# Altium schematic symbol library Diode.SchLib: 578 symbols (part 2 of 4)
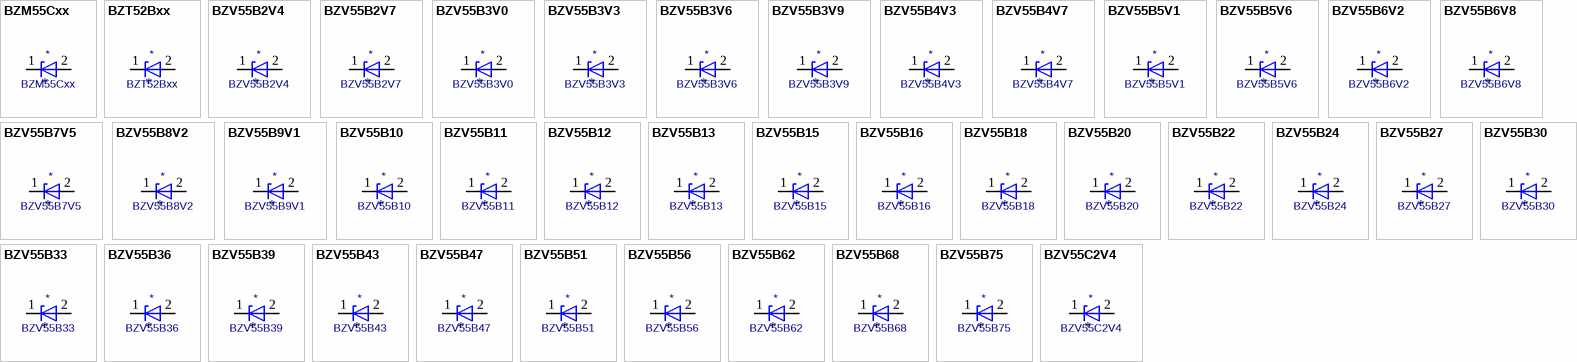
[diagram p16: symbols BZM55Cxx to BZV55C2V4]

## BZV55B9V1
designator *  value BZV55B9V1
ki_keywords: zener diode; ki_description: 9.1V, 500mW, 2%, Zener diode, MiniMELF; ki_fp_filters: D*MiniMELF*; Footprint: Diode_SMD:D_MiniMELF; Supplier: https://assets.nexperia.com/documents/data-sheet/BZV55_SER.pdf
footprint D_MiniMELF
pins: 1 K, 2 A

## BZV55B10
designator *  value BZV55B10
ki_keywords: zener diode; ki_description: 10V, 500mW, 2%, Zener diode, MiniMELF; ki_fp_filters: D*MiniMELF*; Footprint: Diode_SMD:D_MiniMELF; Supplier: https://assets.nexperia.com/documents/data-sheet/BZV55_SER.pdf
footprint D_MiniMELF
pins: 1 K, 2 A

## BZV55B11
designator *  value BZV55B11
ki_keywords: zener diode; ki_description: 11V, 500mW, 2%, Zener diode, MiniMELF; ki_fp_filters: D*MiniMELF*; Footprint: Diode_SMD:D_MiniMELF; Supplier: https://assets.nexperia.com/documents/data-sheet/BZV55_SER.pdf
footprint D_MiniMELF
pins: 1 K, 2 A

## BZV55B12
designator *  value BZV55B12
ki_keywords: zener diode; ki_description: 12V, 500mW, 2%, Zener diode, MiniMELF; ki_fp_filters: D*MiniMELF*; Footprint: Diode_SMD:D_MiniMELF; Supplier: https://assets.nexperia.com/documents/data-sheet/BZV55_SER.pdf
footprint D_MiniMELF
pins: 1 K, 2 A

## BZV55B13
designator *  value BZV55B13
ki_keywords: zener diode; ki_description: 13V, 500mW, 2%, Zener diode, MiniMELF; ki_fp_filters: D*MiniMELF*; Footprint: Diode_SMD:D_MiniMELF; Supplier: https://assets.nexperia.com/documents/data-sheet/BZV55_SER.pdf
footprint D_MiniMELF
pins: 1 K, 2 A

## BZV55B15
designator *  value BZV55B15
ki_keywords: zener diode; ki_description: 15V, 500mW, 2%, Zener diode, MiniMELF; ki_fp_filters: D*MiniMELF*; Footprint: Diode_SMD:D_MiniMELF; Supplier: https://assets.nexperia.com/documents/data-sheet/BZV55_SER.pdf
footprint D_MiniMELF
pins: 1 K, 2 A

## BZV55B16
designator *  value BZV55B16
ki_keywords: zener diode; ki_description: 16V, 500mW, 2%, Zener diode, MiniMELF; ki_fp_filters: D*MiniMELF*; Footprint: Diode_SMD:D_MiniMELF; Supplier: https://assets.nexperia.com/documents/data-sheet/BZV55_SER.pdf
footprint D_MiniMELF
pins: 1 K, 2 A

## BZV55B18
designator *  value BZV55B18
ki_keywords: zener diode; ki_description: 18V, 500mW, 2%, Zener diode, MiniMELF; ki_fp_filters: D*MiniMELF*; Footprint: Diode_SMD:D_MiniMELF; Supplier: https://assets.nexperia.com/documents/data-sheet/BZV55_SER.pdf
footprint D_MiniMELF
pins: 1 K, 2 A

## BZV55B20
designator *  value BZV55B20
ki_keywords: zener diode; ki_description: 20V, 500mW, 2%, Zener diode, MiniMELF; ki_fp_filters: D*MiniMELF*; Footprint: Diode_SMD:D_MiniMELF; Supplier: https://assets.nexperia.com/documents/data-sheet/BZV55_SER.pdf
footprint D_MiniMELF
pins: 1 K, 2 A

## BZV55B22
designator *  value BZV55B22
ki_keywords: zener diode; ki_description: 22V, 500mW, 2%, Zener diode, MiniMELF; ki_fp_filters: D*MiniMELF*; Footprint: Diode_SMD:D_MiniMELF; Supplier: https://assets.nexperia.com/documents/data-sheet/BZV55_SER.pdf
footprint D_MiniMELF
pins: 1 K, 2 A

## BZV55B24
designator *  value BZV55B24
ki_keywords: zener diode; ki_description: 24V, 500mW, 2%, Zener diode, MiniMELF; ki_fp_filters: D*MiniMELF*; Footprint: Diode_SMD:D_MiniMELF; Supplier: https://assets.nexperia.com/documents/data-sheet/BZV55_SER.pdf
footprint D_MiniMELF
pins: 1 K, 2 A

## BZV55B27
designator *  value BZV55B27
ki_keywords: zener diode; ki_description: 2.4V, 500mW, 2%, Zener diode, MiniMELF; ki_fp_filters: D*MiniMELF*; Footprint: Diode_SMD:D_MiniMELF; Supplier: https://assets.nexperia.com/documents/data-sheet/BZV55_SER.pdf
footprint D_MiniMELF
pins: 1 K, 2 A

## BZV55B30
designator *  value BZV55B30
ki_keywords: zener diode; ki_description: 30V, 500mW, 2%, Zener diode, MiniMELF; ki_fp_filters: D*MiniMELF*; Footprint: Diode_SMD:D_MiniMELF; Supplier: https://assets.nexperia.com/documents/data-sheet/BZV55_SER.pdf
footprint D_MiniMELF
pins: 1 K, 2 A

## BZV55B33
designator *  value BZV55B33
ki_keywords: zener diode; ki_description: 33V, 500mW, 2%, Zener diode, MiniMELF; ki_fp_filters: D*MiniMELF*; Footprint: Diode_SMD:D_MiniMELF; Supplier: https://assets.nexperia.com/documents/data-sheet/BZV55_SER.pdf
footprint D_MiniMELF
pins: 1 K, 2 A

## BZV55B36
designator *  value BZV55B36
ki_keywords: zener diode; ki_description: 36V, 500mW, 2%, Zener diode, MiniMELF; ki_fp_filters: D*MiniMELF*; Footprint: Diode_SMD:D_MiniMELF; Supplier: https://assets.nexperia.com/documents/data-sheet/BZV55_SER.pdf
footprint D_MiniMELF
pins: 1 K, 2 A

## BZV55B39
designator *  value BZV55B39
ki_keywords: zener diode; ki_description: 39V, 500mW, 2%, Zener diode, MiniMELF; ki_fp_filters: D*MiniMELF*; Footprint: Diode_SMD:D_MiniMELF; Supplier: https://assets.nexperia.com/documents/data-sheet/BZV55_SER.pdf
footprint D_MiniMELF
pins: 1 K, 2 A

## BZV55B43
designator *  value BZV55B43
ki_keywords: zener diode; ki_description: 43V, 500mW, 2%, Zener diode, MiniMELF; ki_fp_filters: D*MiniMELF*; Footprint: Diode_SMD:D_MiniMELF; Supplier: https://assets.nexperia.com/documents/data-sheet/BZV55_SER.pdf
footprint D_MiniMELF
pins: 1 K, 2 A

## BZV55B47
designator *  value BZV55B47
ki_keywords: zener diode; ki_description: 47V, 500mW, 2%, Zener diode, MiniMELF; ki_fp_filters: D*MiniMELF*; Footprint: Diode_SMD:D_MiniMELF; Supplier: https://assets.nexperia.com/documents/data-sheet/BZV55_SER.pdf
footprint D_MiniMELF
pins: 1 K, 2 A

## BZV55B51
designator *  value BZV55B51
ki_keywords: zener diode; ki_description: 51V, 500mW, 2%, Zener diode, MiniMELF; ki_fp_filters: D*MiniMELF*; Footprint: Diode_SMD:D_MiniMELF; Supplier: https://assets.nexperia.com/documents/data-sheet/BZV55_SER.pdf
footprint D_MiniMELF
pins: 1 K, 2 A

## BZV55B56
designator *  value BZV55B56
ki_keywords: zener diode; ki_description: 56V, 500mW, 2%, Zener diode, MiniMELF; ki_fp_filters: D*MiniMELF*; Footprint: Diode_SMD:D_MiniMELF; Supplier: https://assets.nexperia.com/documents/data-sheet/BZV55_SER.pdf
footprint D_MiniMELF
pins: 1 K, 2 A

## BZV55B62
designator *  value BZV55B62
ki_keywords: zener diode; ki_description: 62V, 500mW, 2%, Zener diode, MiniMELF; ki_fp_filters: D*MiniMELF*; Footprint: Diode_SMD:D_MiniMELF; Supplier: https://assets.nexperia.com/documents/data-sheet/BZV55_SER.pdf
footprint D_MiniMELF
pins: 1 K, 2 A

## BZV55B68
designator *  value BZV55B68
ki_keywords: zener diode; ki_description: 68V, 500mW, 2%, Zener diode, MiniMELF; ki_fp_filters: D*MiniMELF*; Footprint: Diode_SMD:D_MiniMELF; Supplier: https://assets.nexperia.com/documents/data-sheet/BZV55_SER.pdf
footprint D_MiniMELF
pins: 1 K, 2 A

## BZV55B75
designator *  value BZV55B75
ki_keywords: zener diode; ki_description: 75V, 500mW, 2%, Zener diode, MiniMELF; ki_fp_filters: D*MiniMELF*; Footprint: Diode_SMD:D_MiniMELF; Supplier: https://assets.nexperia.com/documents/data-sheet/BZV55_SER.pdf
footprint D_MiniMELF
pins: 1 K, 2 A

## BZV55C2V4
designator *  value BZV55C2V4
ki_keywords: zener diode; ki_description: 2.4V, 500mW, 5%, Zener diode, MiniMELF; ki_fp_filters: D*MiniMELF*; Footprint: Diode_SMD:D_MiniMELF; Supplier: https://assets.nexperia.com/documents/data-sheet/BZV55_SER.pdf
footprint D_MiniMELF
pins: 1 K, 2 A

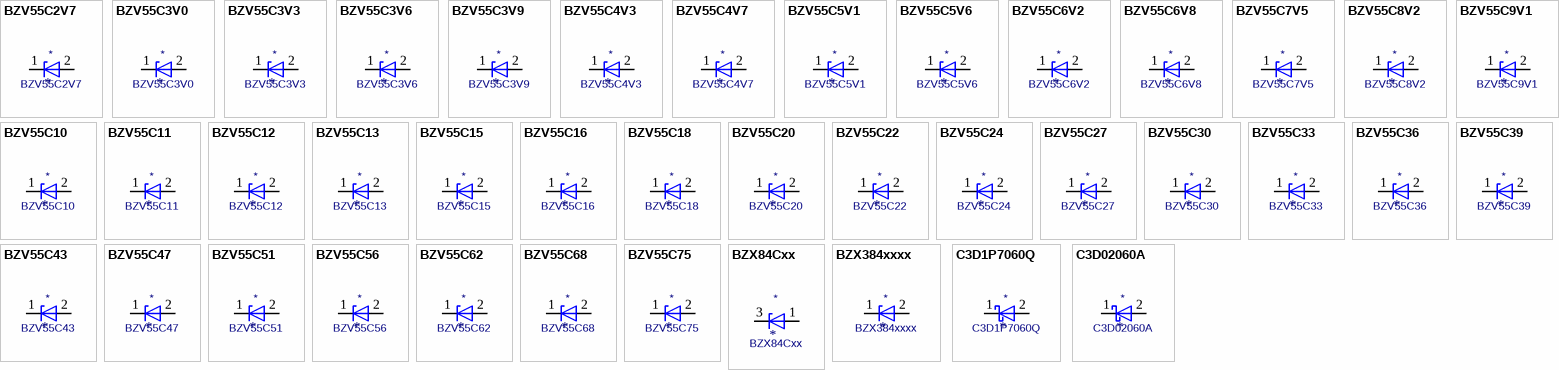
[diagram p5: symbols BZV55C2V7 to C3D02060A]

## BZV55C2V7
designator *  value BZV55C2V7
ki_keywords: zener diode; ki_description: 2.7V, 500mW, 5%, Zener diode, MiniMELF; ki_fp_filters: D*MiniMELF*; Footprint: Diode_SMD:D_MiniMELF; Supplier: https://assets.nexperia.com/documents/data-sheet/BZV55_SER.pdf
footprint D_MiniMELF
pins: 1 K, 2 A

## BZV55C3V0
designator *  value BZV55C3V0
ki_keywords: zener diode; ki_description: 3.0V, 500mW, 5%, Zener diode, MiniMELF; ki_fp_filters: D*MiniMELF*; Footprint: Diode_SMD:D_MiniMELF; Supplier: https://assets.nexperia.com/documents/data-sheet/BZV55_SER.pdf
footprint D_MiniMELF
pins: 1 K, 2 A

## BZV55C3V3
designator *  value BZV55C3V3
ki_keywords: zener diode; ki_description: 3.3V, 500mW, 5%, Zener diode, MiniMELF; ki_fp_filters: D*MiniMELF*; Footprint: Diode_SMD:D_MiniMELF; Supplier: https://assets.nexperia.com/documents/data-sheet/BZV55_SER.pdf
footprint D_MiniMELF
pins: 1 K, 2 A

## BZV55C3V6
designator *  value BZV55C3V6
ki_keywords: zener diode; ki_description: 3.6V, 500mW, 5%, Zener diode, MiniMELF; ki_fp_filters: D*MiniMELF*; Footprint: Diode_SMD:D_MiniMELF; Supplier: https://assets.nexperia.com/documents/data-sheet/BZV55_SER.pdf
footprint D_MiniMELF
pins: 1 K, 2 A

## BZV55C3V9
designator *  value BZV55C3V9
ki_keywords: zener diode; ki_description: 3.9V, 500mW, 5%, Zener diode, MiniMELF; ki_fp_filters: D*MiniMELF*; Footprint: Diode_SMD:D_MiniMELF; Supplier: https://assets.nexperia.com/documents/data-sheet/BZV55_SER.pdf
footprint D_MiniMELF
pins: 1 K, 2 A

## BZV55C4V3
designator *  value BZV55C4V3
ki_keywords: zener diode; ki_description: 4.3V, 500mW, 5%, Zener diode, MiniMELF; ki_fp_filters: D*MiniMELF*; Footprint: Diode_SMD:D_MiniMELF; Supplier: https://assets.nexperia.com/documents/data-sheet/BZV55_SER.pdf
footprint D_MiniMELF
pins: 1 K, 2 A

## BZV55C4V7
designator *  value BZV55C4V7
ki_keywords: zener diode; ki_description: 4.7V, 500mW, 5%, Zener diode, MiniMELF; ki_fp_filters: D*MiniMELF*; Footprint: Diode_SMD:D_MiniMELF; Supplier: https://assets.nexperia.com/documents/data-sheet/BZV55_SER.pdf
footprint D_MiniMELF
pins: 1 K, 2 A

## BZV55C5V1
designator *  value BZV55C5V1
ki_keywords: zener diode; ki_description: 5.1V, 500mW, 5%, Zener diode, MiniMELF; ki_fp_filters: D*MiniMELF*; Footprint: Diode_SMD:D_MiniMELF; Supplier: https://assets.nexperia.com/documents/data-sheet/BZV55_SER.pdf
footprint D_MiniMELF
pins: 1 K, 2 A

## BZV55C5V6
designator *  value BZV55C5V6
ki_keywords: zener diode; ki_description: 5.6V, 500mW, 5%, Zener diode, MiniMELF; ki_fp_filters: D*MiniMELF*; Footprint: Diode_SMD:D_MiniMELF; Supplier: https://assets.nexperia.com/documents/data-sheet/BZV55_SER.pdf
footprint D_MiniMELF
pins: 1 K, 2 A

## BZV55C6V2
designator *  value BZV55C6V2
ki_keywords: zener diode; ki_description: 6.2V, 500mW, 5%, Zener diode, MiniMELF; ki_fp_filters: D*MiniMELF*; Footprint: Diode_SMD:D_MiniMELF; Supplier: https://assets.nexperia.com/documents/data-sheet/BZV55_SER.pdf
footprint D_MiniMELF
pins: 1 K, 2 A

## BZV55C6V8
designator *  value BZV55C6V8
ki_keywords: zener diode; ki_description: 6.8V, 500mW, 5%, Zener diode, MiniMELF; ki_fp_filters: D*MiniMELF*; Footprint: Diode_SMD:D_MiniMELF; Supplier: https://assets.nexperia.com/documents/data-sheet/BZV55_SER.pdf
footprint D_MiniMELF
pins: 1 K, 2 A

## BZV55C7V5
designator *  value BZV55C7V5
ki_keywords: zener diode; ki_description: 7.5V, 500mW, 5%, Zener diode, MiniMELF; ki_fp_filters: D*MiniMELF*; Footprint: Diode_SMD:D_MiniMELF; Supplier: https://assets.nexperia.com/documents/data-sheet/BZV55_SER.pdf
footprint D_MiniMELF
pins: 1 K, 2 A

## BZV55C8V2
designator *  value BZV55C8V2
ki_keywords: zener diode; ki_description: 8.2V, 500mW, 5%, Zener diode, MiniMELF; ki_fp_filters: D*MiniMELF*; Footprint: Diode_SMD:D_MiniMELF; Supplier: https://assets.nexperia.com/documents/data-sheet/BZV55_SER.pdf
footprint D_MiniMELF
pins: 1 K, 2 A

## BZV55C9V1
designator *  value BZV55C9V1
ki_keywords: zener diode; ki_description: 9.1V, 500mW, 5%, Zener diode, MiniMELF; ki_fp_filters: D*MiniMELF*; Footprint: Diode_SMD:D_MiniMELF; Supplier: https://assets.nexperia.com/documents/data-sheet/BZV55_SER.pdf
footprint D_MiniMELF
pins: 1 K, 2 A

## BZV55C10
designator *  value BZV55C10
ki_keywords: zener diode; ki_description: 10V, 500mW, 5%, Zener diode, MiniMELF; ki_fp_filters: D*MiniMELF*; Footprint: Diode_SMD:D_MiniMELF; Supplier: https://assets.nexperia.com/documents/data-sheet/BZV55_SER.pdf
footprint D_MiniMELF
pins: 1 K, 2 A

## BZV55C11
designator *  value BZV55C11
ki_keywords: zener diode; ki_description: 11V, 500mW, 5%, Zener diode, MiniMELF; ki_fp_filters: D*MiniMELF*; Footprint: Diode_SMD:D_MiniMELF; Supplier: https://assets.nexperia.com/documents/data-sheet/BZV55_SER.pdf
footprint D_MiniMELF
pins: 1 K, 2 A

## BZV55C12
designator *  value BZV55C12
ki_keywords: zener diode; ki_description: 12V, 500mW, 5%, Zener diode, MiniMELF; ki_fp_filters: D*MiniMELF*; Footprint: Diode_SMD:D_MiniMELF; Supplier: https://assets.nexperia.com/documents/data-sheet/BZV55_SER.pdf
footprint D_MiniMELF
pins: 1 K, 2 A

## BZV55C13
designator *  value BZV55C13
ki_keywords: zener diode; ki_description: 13V, 500mW, 5%, Zener diode, MiniMELF; ki_fp_filters: D*MiniMELF*; Footprint: Diode_SMD:D_MiniMELF; Supplier: https://assets.nexperia.com/documents/data-sheet/BZV55_SER.pdf
footprint D_MiniMELF
pins: 1 K, 2 A

## BZV55C15
designator *  value BZV55C15
ki_keywords: zener diode; ki_description: 15V, 500mW, 5%, Zener diode, MiniMELF; ki_fp_filters: D*MiniMELF*; Footprint: Diode_SMD:D_MiniMELF; Supplier: https://assets.nexperia.com/documents/data-sheet/BZV55_SER.pdf
footprint D_MiniMELF
pins: 1 K, 2 A

## BZV55C16
designator *  value BZV55C16
ki_keywords: zener diode; ki_description: 16V, 500mW, 5%, Zener diode, MiniMELF; ki_fp_filters: D*MiniMELF*; Footprint: Diode_SMD:D_MiniMELF; Supplier: https://assets.nexperia.com/documents/data-sheet/BZV55_SER.pdf
footprint D_MiniMELF
pins: 1 K, 2 A

## BZV55C18
designator *  value BZV55C18
ki_keywords: zener diode; ki_description: 18V, 500mW, 5%, Zener diode, MiniMELF; ki_fp_filters: D*MiniMELF*; Footprint: Diode_SMD:D_MiniMELF; Supplier: https://assets.nexperia.com/documents/data-sheet/BZV55_SER.pdf
footprint D_MiniMELF
pins: 1 K, 2 A

## BZV55C20
designator *  value BZV55C20
ki_keywords: zener diode; ki_description: 20V, 500mW, 5%, Zener diode, MiniMELF; ki_fp_filters: D*MiniMELF*; Footprint: Diode_SMD:D_MiniMELF; Supplier: https://assets.nexperia.com/documents/data-sheet/BZV55_SER.pdf
footprint D_MiniMELF
pins: 1 K, 2 A

## BZV55C22
designator *  value BZV55C22
ki_keywords: zener diode; ki_description: 22V, 500mW, 5%, Zener diode, MiniMELF; ki_fp_filters: D*MiniMELF*; Footprint: Diode_SMD:D_MiniMELF; Supplier: https://assets.nexperia.com/documents/data-sheet/BZV55_SER.pdf
footprint D_MiniMELF
pins: 1 K, 2 A

## BZV55C24
designator *  value BZV55C24
ki_keywords: zener diode; ki_description: 24V, 500mW, 5%, Zener diode, MiniMELF; ki_fp_filters: D*MiniMELF*; Footprint: Diode_SMD:D_MiniMELF; Supplier: https://assets.nexperia.com/documents/data-sheet/BZV55_SER.pdf
footprint D_MiniMELF
pins: 1 K, 2 A

## BZV55C27
designator *  value BZV55C27
ki_keywords: zener diode; ki_description: 27V, 500mW, 5%, Zener diode, MiniMELF; ki_fp_filters: D*MiniMELF*; Footprint: Diode_SMD:D_MiniMELF; Supplier: https://assets.nexperia.com/documents/data-sheet/BZV55_SER.pdf
footprint D_MiniMELF
pins: 1 K, 2 A

## BZV55C30
designator *  value BZV55C30
ki_keywords: zener diode; ki_description: 30V, 500mW, 5%, Zener diode, MiniMELF; ki_fp_filters: D*MiniMELF*; Footprint: Diode_SMD:D_MiniMELF; Supplier: https://assets.nexperia.com/documents/data-sheet/BZV55_SER.pdf
footprint D_MiniMELF
pins: 1 K, 2 A

## BZV55C33
designator *  value BZV55C33
ki_keywords: zener diode; ki_description: 33V, 500mW, 5%, Zener diode, MiniMELF; ki_fp_filters: D*MiniMELF*; Footprint: Diode_SMD:D_MiniMELF; Supplier: https://assets.nexperia.com/documents/data-sheet/BZV55_SER.pdf
footprint D_MiniMELF
pins: 1 K, 2 A

## BZV55C36
designator *  value BZV55C36
ki_keywords: zener diode; ki_description: 36V, 500mW, 5%, Zener diode, MiniMELF; ki_fp_filters: D*MiniMELF*; Footprint: Diode_SMD:D_MiniMELF; Supplier: https://assets.nexperia.com/documents/data-sheet/BZV55_SER.pdf
footprint D_MiniMELF
pins: 1 K, 2 A

## BZV55C39
designator *  value BZV55C39
ki_keywords: zener diode; ki_description: 39V, 500mW, 5%, Zener diode, MiniMELF; ki_fp_filters: D*MiniMELF*; Footprint: Diode_SMD:D_MiniMELF; Supplier: https://assets.nexperia.com/documents/data-sheet/BZV55_SER.pdf
footprint D_MiniMELF
pins: 1 K, 2 A

## BZV55C43
designator *  value BZV55C43
ki_keywords: zener diode; ki_description: 43V, 500mW, 5%, Zener diode, MiniMELF; ki_fp_filters: D*MiniMELF*; Footprint: Diode_SMD:D_MiniMELF; Supplier: https://assets.nexperia.com/documents/data-sheet/BZV55_SER.pdf
footprint D_MiniMELF
pins: 1 K, 2 A

## BZV55C47
designator *  value BZV55C47
ki_keywords: zener diode; ki_description: 47V, 500mW, 5%, Zener diode, MiniMELF; ki_fp_filters: D*MiniMELF*; Footprint: Diode_SMD:D_MiniMELF; Supplier: https://assets.nexperia.com/documents/data-sheet/BZV55_SER.pdf
footprint D_MiniMELF
pins: 1 K, 2 A

## BZV55C51
designator *  value BZV55C51
ki_keywords: zener diode; ki_description: 51V, 500mW, 5%, Zener diode, MiniMELF; ki_fp_filters: D*MiniMELF*; Footprint: Diode_SMD:D_MiniMELF; Supplier: https://assets.nexperia.com/documents/data-sheet/BZV55_SER.pdf
footprint D_MiniMELF
pins: 1 K, 2 A

## BZV55C56
designator *  value BZV55C56
ki_keywords: zener diode; ki_description: 56V, 500mW, 5%, Zener diode, MiniMELF; ki_fp_filters: D*MiniMELF*; Footprint: Diode_SMD:D_MiniMELF; Supplier: https://assets.nexperia.com/documents/data-sheet/BZV55_SER.pdf
footprint D_MiniMELF
pins: 1 K, 2 A

## BZV55C62
designator *  value BZV55C62
ki_keywords: zener diode; ki_description: 62V, 500mW, 5%, Zener diode, MiniMELF; ki_fp_filters: D*MiniMELF*; Footprint: Diode_SMD:D_MiniMELF; Supplier: https://assets.nexperia.com/documents/data-sheet/BZV55_SER.pdf
footprint D_MiniMELF
pins: 1 K, 2 A

## BZV55C68
designator *  value BZV55C68
ki_keywords: zener diode; ki_description: 68V, 500mW, 5%, Zener diode, MiniMELF; ki_fp_filters: D*MiniMELF*; Footprint: Diode_SMD:D_MiniMELF; Supplier: https://assets.nexperia.com/documents/data-sheet/BZV55_SER.pdf
footprint D_MiniMELF
pins: 1 K, 2 A

## BZV55C75
designator *  value BZV55C75
ki_keywords: zener diode; ki_description: 75V, 500mW, 5%, Zener diode, MiniMELF; ki_fp_filters: D*MiniMELF*; Footprint: Diode_SMD:D_MiniMELF; Supplier: https://assets.nexperia.com/documents/data-sheet/BZV55_SER.pdf
footprint D_MiniMELF
pins: 1 K, 2 A

## BZX84Cxx
designator *  value BZX84Cxx
ki_keywords: zener diode; ki_description: 300mW Zener Diode, SOT-23; ki_fp_filters: SOT?23*; Footprint: Package_TO_SOT_SMD:SOT-23; Supplier: https://diotec.com/tl_files/diotec/files/pdf/datasheets/bzx84c2v4.pdf
footprint SOT-23
pins: 1 A, 2 NC (in) hidden, 3 K

## BZX384xxxx
designator *  value BZX384xxxx
ki_keywords: zener diode; ki_description: 300mW Zener Diode, SOD-323; ki_fp_filters: D*SOD*323*; Footprint: Diode_SMD:D_SOD-323; Supplier: https://www.vishay.com/docs/85764/bzx384.pdf
footprint D_SOD-323
pins: 1 K, 2 A

## C3D1P7060Q
designator *  value C3D1P7060Q
ki_keywords: sic diode; ki_description: 600V, 1.7A, SiC Schottky Diode, QFN; ki_fp_filters: D*QFN*3.3x3.3mm*P0.65mm*; Footprint: Diode_SMD:D_QFN_3.3x3.3mm_P0.65mm; Supplier: https://www.wolfspeed.com/media/downloads/846/C3D1P7060Q.pdf
footprint D_QFN_3.3x3.3mm_P0.65mm
pins: 1 K, 2 A

## C3D02060A
designator *  value C3D02060A
ki_keywords: sic diode; ki_description: 600V, 2A, SiC Schottky Diode, TO-220; ki_fp_filters: TO?220*; Footprint: Package_TO_SOT_THT:TO-220-2_Vertical; Supplier: https://www.wolfspeed.com/media/downloads/55/C3D02060A.pdf
footprint TO-220-2_Vertical
pins: 1 K, 2 A

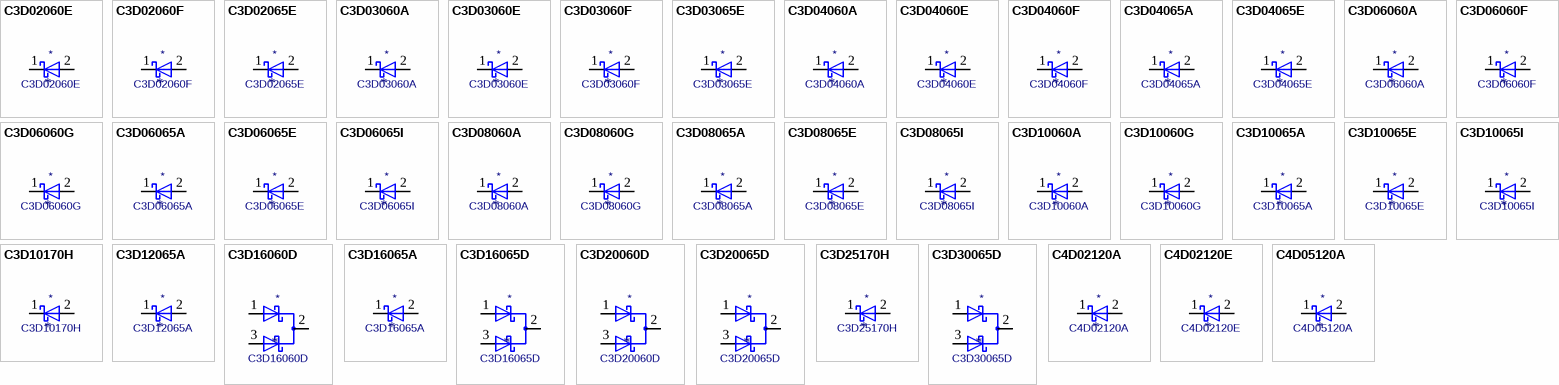
[diagram p6: symbols C3D02060E to C4D05120A]

## C3D02060E
designator *  value C3D02060E
ki_keywords: sic diode; ki_description: 600V, 2A, SiC Schottky Diode, TO-252; ki_fp_filters: TO?252*TabPin1*; Footprint: Package_TO_SOT_SMD:TO-252-2_TabPin1; Supplier: https://www.wolfspeed.com/media/downloads/116/C3D02060E.pdf
footprint TO-252-2_TabPin1
pins: 1 K, 2 A

## C3D02060F
designator *  value C3D02060F
ki_keywords: sic diode; ki_description: 600V, 2A, SiC Schottky Diode, TO-220F; ki_fp_filters: TO?220F*; Footprint: Package_TO_SOT_THT:TO-220F-2_Vertical; Supplier: https://www.wolfspeed.com/media/downloads/35/C3D02060F.pdf
footprint TO-220F-2_Vertical
pins: 1 K, 2 A

## C3D02065E
designator *  value C3D02065E
ki_keywords: sic diode; ki_description: 650V, 2A, SiC Schottky Diode, TO-252; ki_fp_filters: TO?252*TabPin1*; Footprint: Package_TO_SOT_SMD:TO-252-2_TabPin1; Supplier: https://www.wolfspeed.com/media/downloads/118/C3D02065E.pdf
footprint TO-252-2_TabPin1
pins: 1 K, 2 A

## C3D03060A
designator *  value C3D03060A
ki_keywords: sic diode; ki_description: 600V, 3A, SiC Schottky Diode, TO-220; ki_fp_filters: TO?220*; Footprint: Package_TO_SOT_THT:TO-220-2_Vertical; Supplier: https://www.wolfspeed.com/media/downloads/57/C3D03060A.pdf
footprint TO-220-2_Vertical
pins: 1 K, 2 A

## C3D03060E
designator *  value C3D03060E
ki_keywords: sic diode; ki_description: 600V, 3A, SiC Schottky Diode, TO-252; ki_fp_filters: TO?252*TabPin1*; Footprint: Package_TO_SOT_SMD:TO-252-2_TabPin1; Supplier: https://www.wolfspeed.com/media/downloads/119/C3D03060E.pdf
footprint TO-252-2_TabPin1
pins: 1 K, 2 A

## C3D03060F
designator *  value C3D03060F
ki_keywords: sic diode; ki_description: 600V, 3A, SiC Schottky Diode, TO-220F; ki_fp_filters: TO?220F*; Footprint: Package_TO_SOT_THT:TO-220F-2_Vertical; Supplier: https://www.wolfspeed.com/media/downloads/39/C3D03060F.pdf
footprint TO-220F-2_Vertical
pins: 1 K, 2 A

## C3D03065E
designator *  value C3D03065E
ki_keywords: sic diode; ki_description: 650V, 3A, SiC Schottky Diode, TO-252; ki_fp_filters: TO?252*TabPin1*; Footprint: Package_TO_SOT_SMD:TO-252-2_TabPin1; Supplier: https://www.wolfspeed.com/media/downloads/121/C3D03065E.pdf
footprint TO-252-2_TabPin1
pins: 1 K, 2 A

## C3D04060A
designator *  value C3D04060A
ki_keywords: sic diode; ki_description: 600V, 4A, SiC Schottky Diode, TO-220; ki_fp_filters: TO?220*; Footprint: Package_TO_SOT_THT:TO-220-2_Vertical; Supplier: https://www.wolfspeed.com/media/downloads/845/C3D04060A.pdf
footprint TO-220-2_Vertical
pins: 1 K, 2 A

## C3D04060E
designator *  value C3D04060E
ki_keywords: sic diode; ki_description: 600V, 4A, SiC Schottky Diode, TO-252; ki_fp_filters: TO?252*TabPin1*; Footprint: Package_TO_SOT_SMD:TO-252-2_TabPin1; Supplier: https://www.wolfspeed.com/media/downloads/122/C3D04060E.pdf
footprint TO-252-2_TabPin1
pins: 1 K, 2 A

## C3D04060F
designator *  value C3D04060F
ki_keywords: sic diode; ki_description: 600V, 4A, SiC Schottky Diode, TO-220F; ki_fp_filters: TO?220F*; Footprint: Package_TO_SOT_THT:TO-220F-2_Vertical; Supplier: https://www.wolfspeed.com/media/downloads/41/C3D04060F.pdf
footprint TO-220F-2_Vertical
pins: 1 K, 2 A

## C3D04065A
designator *  value C3D04065A
ki_keywords: sic diode; ki_description: 650V, 4A, SiC Schottky Diode, TO-220; ki_fp_filters: TO?220*; Footprint: Package_TO_SOT_THT:TO-220-2_Vertical; Supplier: https://www.wolfspeed.com/media/downloads/841/C3D04065A.pdf
footprint TO-220-2_Vertical
pins: 1 K, 2 A

## C3D04065E
designator *  value C3D04065E
ki_keywords: sic diode; ki_description: 650V, 4A, SiC Schottky Diode, TO-252; ki_fp_filters: TO?252*TabPin1*; Footprint: Package_TO_SOT_SMD:TO-252-2_TabPin1; Supplier: https://www.wolfspeed.com/media/downloads/124/C3D04065E.pdf
footprint TO-252-2_TabPin1
pins: 1 K, 2 A

## C3D06060A
designator *  value C3D06060A
ki_keywords: sic diode; ki_description: 600V, 6A, SiC Schottky Diode, TO-220; ki_fp_filters: TO?220*; Footprint: Package_TO_SOT_THT:TO-220-2_Vertical; Supplier: https://www.wolfspeed.com/media/downloads/844/C3D06060A.pdf
footprint TO-220-2_Vertical
pins: 1 K, 2 A

## C3D06060F
designator *  value C3D06060F
ki_keywords: sic diode; ki_description: 600V, 6A, SiC Schottky Diode, TO-220F; ki_fp_filters: TO?220F*; Footprint: Package_TO_SOT_THT:TO-220F-2_Vertical; Supplier: https://www.wolfspeed.com/media/downloads/43/C3D06060F.pdf
footprint TO-220F-2_Vertical
pins: 1 K, 2 A

## C3D06060G
designator *  value C3D06060G
ki_keywords: sic diode; ki_description: 600V, 6A, SiC Schottky Diode, TO-263; ki_fp_filters: TO?263*TabPin1*; Footprint: Package_TO_SOT_SMD:TO-263-2_TabPin1; Supplier: https://www.wolfspeed.com/media/downloads/137/C3D06060G.pdf
footprint TO-263-2_TabPin1
pins: 1 K, 2 A

## C3D06065A
designator *  value C3D06065A
ki_keywords: sic diode; ki_description: 650V, 6A, SiC Schottky Diode, TO-220; ki_fp_filters: TO?220*; Footprint: Package_TO_SOT_THT:TO-220-2_Vertical; Supplier: https://www.wolfspeed.com/media/downloads/65/C3D06065A.pdf
footprint TO-220-2_Vertical
pins: 1 K, 2 A

## C3D06065E
designator *  value C3D06065E
ki_keywords: sic diode; ki_description: 650V, 6A, SiC Schottky Diode, TO-252; ki_fp_filters: TO?252*TabPin1*; Footprint: Package_TO_SOT_SMD:TO-252-2_TabPin1; Supplier: https://www.wolfspeed.com/media/downloads/125/C3D06065E.pdf
footprint TO-252-2_TabPin1
pins: 1 K, 2 A

## C3D06065I
designator *  value C3D06065I
ki_keywords: sic diode; ki_description: 650V, 6A, SiC Schottky Diode, Isolated TO-220; ki_fp_filters: TO?220*; Footprint: Package_TO_SOT_THT:TO-220-2_Vertical; Supplier: https://www.wolfspeed.com/media/downloads/44/C3D06065I.pdf
footprint TO-220-2_Vertical
pins: 1 K, 2 A

## C3D08060A
designator *  value C3D08060A
ki_keywords: sic diode; ki_description: 600V, 8A, SiC Schottky Diode, TO-220; ki_fp_filters: TO?220*; Footprint: Package_TO_SOT_THT:TO-220-2_Vertical; Supplier: https://www.wolfspeed.com/media/downloads/843/C3D08060A.pdf
footprint TO-220-2_Vertical
pins: 1 K, 2 A

## C3D08060G
designator *  value C3D08060G
ki_keywords: sic diode; ki_description: 600V, 8A, SiC Schottky Diode, TO-263; ki_fp_filters: TO?263*TabPin1*; Footprint: Package_TO_SOT_SMD:TO-263-2_TabPin1; Supplier: https://www.wolfspeed.com/media/downloads/141/C3D08060G.pdf
footprint TO-263-2_TabPin1
pins: 1 K, 2 A

## C3D08065A
designator *  value C3D08065A
ki_keywords: sic diode; ki_description: 650V, 8A, SiC Schottky Diode, TO-220; ki_fp_filters: TO?220*; Footprint: Package_TO_SOT_THT:TO-220-2_Vertical; Supplier: https://www.wolfspeed.com/media/downloads/840/C3D08065A.pdf
footprint TO-220-2_Vertical
pins: 1 K, 2 A

## C3D08065E
designator *  value C3D08065E
ki_keywords: sic diode; ki_description: 650V, 8A, SiC Schottky Diode, TO-252; ki_fp_filters: TO?252*TabPin1*; Footprint: Package_TO_SOT_SMD:TO-252-2_TabPin1; Supplier: https://www.wolfspeed.com/media/downloads/839/C3D08065E.pdf
footprint TO-252-2_TabPin1
pins: 1 K, 2 A

## C3D08065I
designator *  value C3D08065I
ki_keywords: sic diode; ki_description: 650V, 8A, SiC Schottky Diode, Isolated TO-220; ki_fp_filters: TO?220*; Footprint: Package_TO_SOT_THT:TO-220-2_Vertical; Supplier: https://www.wolfspeed.com/media/downloads/47/C3D08065I.pdf
footprint TO-220-2_Vertical
pins: 1 K, 2 A

## C3D10060A
designator *  value C3D10060A
ki_keywords: sic diode; ki_description: 600V, 10A, SiC Schottky Diode, TO-220; ki_fp_filters: TO?220*; Footprint: Package_TO_SOT_THT:TO-220-2_Vertical; Supplier: https://www.wolfspeed.com/media/downloads/842/C3D10060A.pdf
footprint TO-220-2_Vertical
pins: 1 K, 2 A

## C3D10060G
designator *  value C3D10060G
ki_keywords: sic diode; ki_description: 600V, 10A, SiC Schottky Diode, TO-263; ki_fp_filters: TO?263*TabPin1*; Footprint: Package_TO_SOT_SMD:TO-263-2_TabPin1; Supplier: https://www.wolfspeed.com/media/downloads/143/C3D10060G.pdf
footprint TO-263-2_TabPin1
pins: 1 K, 2 A

## C3D10065A
designator *  value C3D10065A
ki_keywords: sic diode; ki_description: 650V, 10A, SiC Schottky Diode, TO-220; ki_fp_filters: TO?220*; Footprint: Package_TO_SOT_THT:TO-220-2_Vertical; Supplier: https://www.wolfspeed.com/media/downloads/73/C3D10065A.pdf
footprint TO-220-2_Vertical
pins: 1 K, 2 A

## C3D10065E
designator *  value C3D10065E
ki_keywords: sic diode; ki_description: 650V, 10A, SiC Schottky Diode, TO-252; ki_fp_filters: TO?252*TabPin1*; Footprint: Package_TO_SOT_SMD:TO-252-2_TabPin1; Supplier: https://www.wolfspeed.com/media/downloads/127/C3D10065E.pdf
footprint TO-252-2_TabPin1
pins: 1 K, 2 A

## C3D10065I
designator *  value C3D10065I
ki_keywords: sic diode; ki_description: 650V, 10A, SiC Schottky Diode, Isolated TO-220; ki_fp_filters: TO?220*; Footprint: Package_TO_SOT_THT:TO-220-2_Vertical; Supplier: https://www.wolfspeed.com/media/downloads/49/C3D10065I.pdf
footprint TO-220-2_Vertical
pins: 1 K, 2 A

## C3D10170H
designator *  value C3D10170H
ki_keywords: sic diode; ki_description: 1700V, 10A, SiC Schottky Diode, TO-247; ki_fp_filters: TO?247*; Footprint: Package_TO_SOT_THT:TO-247-2_Vertical; Supplier: https://www.wolfspeed.com/media/downloads/96/C3D10170H.pdf
footprint TO-247-2_Vertical
pins: 1 K, 2 A

## C3D12065A
designator *  value C3D12065A
ki_keywords: sic diode; ki_description: 650V, 12A, SiC Schottky Diode, TO-220; ki_fp_filters: TO?220*; Footprint: Package_TO_SOT_THT:TO-220-2_Vertical; Supplier: https://www.wolfspeed.com/media/downloads/963/C3D12065A.pdf
footprint TO-220-2_Vertical
pins: 1 K, 2 A

## C3D16060D
designator *  value C3D16060D
ki_keywords: sic diode; ki_description: 600V, 16A, SiC Schottky Diode, TO-247-3; ki_fp_filters: TO?247*; Footprint: Package_TO_SOT_THT:TO-247-3_Vertical; Supplier: https://www.wolfspeed.com/media/downloads/98/C3D16060D.pdf
footprint TO-247-3_Vertical
pins: 1 A1, 2 K, 3 A2

## C3D16065A
designator *  value C3D16065A
ki_keywords: sic diode; ki_description: 650V, 16A, SiC Schottky Diode, TO-220; ki_fp_filters: TO?220*; Footprint: Package_TO_SOT_THT:TO-220-2_Vertical; Supplier: https://www.wolfspeed.com/media/downloads/964/C3D16065A.pdf
footprint TO-220-2_Vertical
pins: 1 K, 2 A

## C3D16065D
designator *  value C3D16065D
ki_keywords: sic diode; ki_description: 650V, 16A, SiC Schottky Diode, TO-247-3; ki_fp_filters: TO?247*; Footprint: Package_TO_SOT_THT:TO-247-3_Vertical; Supplier: https://www.wolfspeed.com/media/downloads/99/C3D16065D.pdf
footprint TO-247-3_Vertical
pins: 1 A1, 2 K, 3 A2

## C3D20060D
designator *  value C3D20060D
ki_keywords: sic diode; ki_description: 600V, 20A, SiC Schottky Diode, TO-247-3; ki_fp_filters: TO?247*; Footprint: Package_TO_SOT_THT:TO-247-3_Vertical; Supplier: https://www.wolfspeed.com/media/downloads/100/C3D20060D.pdf
footprint TO-247-3_Vertical
pins: 1 A1, 2 K, 3 A2

## C3D20065D
designator *  value C3D20065D
ki_keywords: sic diode; ki_description: 650V, 20A, SiC Schottky Diode, TO-247-3; ki_fp_filters: TO?247*; Footprint: Package_TO_SOT_THT:TO-247-3_Vertical; Supplier: https://www.wolfspeed.com/media/downloads/102/C3D20065D.pdf
footprint TO-247-3_Vertical
pins: 1 A1, 2 K, 3 A2

## C3D25170H
designator *  value C3D25170H
ki_keywords: sic diode; ki_description: 1700V, 25A, SiC Schottky Diode, TO-247; ki_fp_filters: TO?247*; Footprint: Package_TO_SOT_THT:TO-247-2_Vertical; Supplier: https://www.wolfspeed.com/media/downloads/103/C3D25170H.pdf
footprint TO-247-2_Vertical
pins: 1 K, 2 A

## C3D30065D
designator *  value C3D30065D
ki_keywords: sic diode; ki_description: 650V, 30A, SiC Schottky Diode, TO-247-3; ki_fp_filters: TO?247*; Footprint: Package_TO_SOT_THT:TO-247-3_Vertical; Supplier: https://www.wolfspeed.com/media/downloads/969/C3D30065D.pdf
footprint TO-247-3_Vertical
pins: 1 A1, 2 K, 3 A2

## C4D02120A
designator *  value C4D02120A
ki_keywords: sic diode; ki_description: 1200V, 2A, SiC Schottky Diode, TO-220; ki_fp_filters: TO?220*; Footprint: Package_TO_SOT_THT:TO-220-2_Vertical; Supplier: https://www.wolfspeed.com/media/downloads/75/C4D02120A.pdf
footprint TO-220-2_Vertical
pins: 1 K, 2 A

## C4D02120E
designator *  value C4D02120E
ki_keywords: sic diode; ki_description: 1200V, 2A, SiC Schottky Diode, TO-252; ki_fp_filters: TO?252*TabPin1*; Footprint: Package_TO_SOT_SMD:TO-252-2_TabPin1; Supplier: https://www.wolfspeed.com/media/downloads/128/C4D02120E.pdf
footprint TO-252-2_TabPin1
pins: 1 K, 2 A

## C4D05120A
designator *  value C4D05120A
ki_keywords: sic diode; ki_description: 1200V, 5A, SiC Schottky Diode, TO-220; ki_fp_filters: TO?220*; Footprint: Package_TO_SOT_THT:TO-220-2_Vertical; Supplier: https://www.wolfspeed.com/media/downloads/77/C4D05120A.pdf
footprint TO-220-2_Vertical
pins: 1 K, 2 A

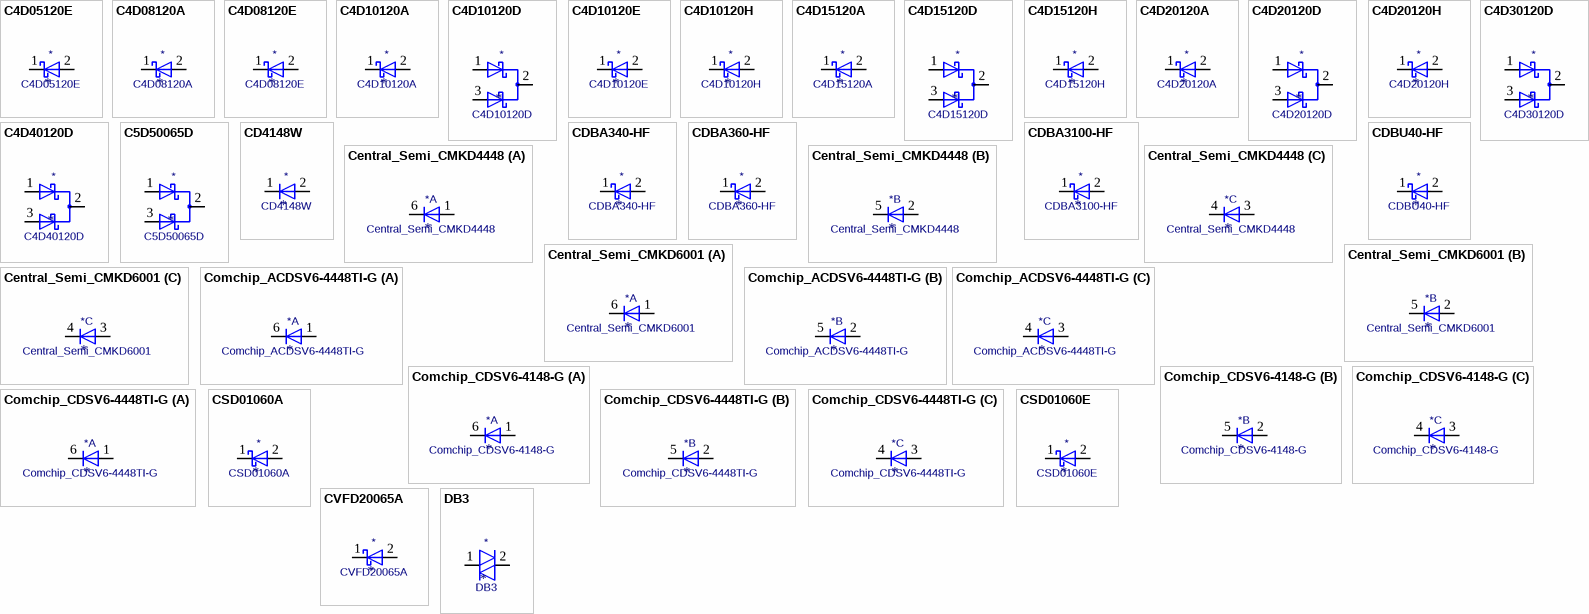
[diagram p7: symbols C4D05120E to DB3]

## C4D05120E
designator *  value C4D05120E
ki_keywords: sic diode; ki_description: 1200V, 5A, SiC Schottky Diode, TO-252; ki_fp_filters: TO?252*TabPin1*; Footprint: Package_TO_SOT_SMD:TO-252-2_TabPin1; Supplier: https://www.wolfspeed.com/media/downloads/130/C4D05120E.pdf
footprint TO-252-2_TabPin1
pins: 1 K, 2 A

## C4D08120A
designator *  value C4D08120A
ki_keywords: sic diode; ki_description: 1200V, 8A, SiC Schottky Diode, TO-220; ki_fp_filters: TO?220*; Footprint: Package_TO_SOT_THT:TO-220-2_Vertical; Supplier: https://www.wolfspeed.com/media/downloads/80/C4D08120A.pdf
footprint TO-220-2_Vertical
pins: 1 K, 2 A

## C4D08120E
designator *  value C4D08120E
ki_keywords: sic diode; ki_description: 1200V, 8A, SiC Schottky Diode, TO-252; ki_fp_filters: TO?252*TabPin1*; Footprint: Package_TO_SOT_SMD:TO-252-2_TabPin1; Supplier: https://www.wolfspeed.com/media/downloads/132/C4D08120E.pdf
footprint TO-252-2_TabPin1
pins: 1 K, 2 A

## C4D10120A
designator *  value C4D10120A
ki_keywords: sic diode; ki_description: 1200V, 10A, SiC Schottky Diode, TO-220; ki_fp_filters: TO?220*; Footprint: Package_TO_SOT_THT:TO-220-2_Vertical; Supplier: https://www.wolfspeed.com/media/downloads/82/C4D10120A.pdf
footprint TO-220-2_Vertical
pins: 1 K, 2 A

## C4D10120D
designator *  value C4D10120D
ki_keywords: sic diode; ki_description: 1200V, 10A, SiC Schottky Diode, TO-247-3; ki_fp_filters: TO?247*; Footprint: Package_TO_SOT_THT:TO-247-3_Vertical; Supplier: https://www.wolfspeed.com/media/downloads/104/C4D10120D.pdf
footprint TO-247-3_Vertical
pins: 1 A1, 2 K, 3 A2

## C4D10120E
designator *  value C4D10120E
ki_keywords: sic diode; ki_description: 1200V, 10A, SiC Schottky Diode, TO-252; ki_fp_filters: TO?252*TabPin1*; Footprint: Package_TO_SOT_SMD:TO-252-2_TabPin1; Supplier: https://www.wolfspeed.com/media/downloads/134/C4D10120E.pdf
footprint TO-252-2_TabPin1
pins: 1 K, 2 A

## C4D10120H
designator *  value C4D10120H
ki_keywords: sic diode; ki_description: 1200V, 10A, SiC Schottky Diode, TO-247; ki_fp_filters: TO?247*; Footprint: Package_TO_SOT_THT:TO-247-2_Vertical; Supplier: https://www.wolfspeed.com/media/downloads/1189/C4D10120H.pdf
footprint TO-247-2_Vertical
pins: 1 K, 2 A

## C4D15120A
designator *  value C4D15120A
ki_keywords: sic diode; ki_description: 1200V, 15A, SiC Schottky Diode, TO-220; ki_fp_filters: TO?220*; Footprint: Package_TO_SOT_THT:TO-220-2_Vertical; Supplier: https://www.wolfspeed.com/media/downloads/84/C4D15120A.pdf
footprint TO-220-2_Vertical
pins: 1 K, 2 A

## C4D15120D
designator *  value C4D15120D
ki_keywords: sic diode; ki_description: 1200V, 15A, SiC Schottky Diode, TO-247-3; ki_fp_filters: TO?247*; Footprint: Package_TO_SOT_THT:TO-247-3_Vertical; Supplier: https://www.wolfspeed.com/media/downloads/848/C4D15120D.pdf
footprint TO-247-3_Vertical
pins: 1 A1, 2 K, 3 A2

## C4D15120H
designator *  value C4D15120H
ki_keywords: sic diode; ki_description: 1200V, 15A, SiC Schottky Diode, TO-247; ki_fp_filters: TO?247*; Footprint: Package_TO_SOT_THT:TO-247-2_Vertical; Supplier: https://www.wolfspeed.com/media/downloads/1190/C4D15120H.pdf
footprint TO-247-2_Vertical
pins: 1 K, 2 A

## C4D20120A
designator *  value C4D20120A
ki_keywords: sic diode; ki_description: 1200V, 20A, SiC Schottky Diode, TO-220; ki_fp_filters: TO?220*; Footprint: Package_TO_SOT_THT:TO-220-2_Vertical; Supplier: https://www.wolfspeed.com/media/downloads/85/C4D20120A.pdf
footprint TO-220-2_Vertical
pins: 1 K, 2 A

## C4D20120D
designator *  value C4D20120D
ki_keywords: sic diode; ki_description: 1200V, 20A, SiC Schottky Diode, TO-247-3; ki_fp_filters: TO?247*; Footprint: Package_TO_SOT_THT:TO-247-3_Vertical; Supplier: https://www.wolfspeed.com/media/downloads/106/C4D20120D.pdf
footprint TO-247-3_Vertical
pins: 1 A1, 2 K, 3 A2

## C4D20120H
designator *  value C4D20120H
ki_keywords: sic diode; ki_description: 1200V, 20A, SiC Schottky Diode, TO-247; ki_fp_filters: TO?247*; Footprint: Package_TO_SOT_THT:TO-247-2_Vertical; Supplier: https://www.wolfspeed.com/media/downloads/1191/C4D20120H.pdf
footprint TO-247-2_Vertical
pins: 1 K, 2 A

## C4D30120D
designator *  value C4D30120D
ki_keywords: sic diode; ki_description: 1200V, 30A, SiC Schottky Diode, TO-247-3; ki_fp_filters: TO?247*; Footprint: Package_TO_SOT_THT:TO-247-3_Vertical; Supplier: https://www.wolfspeed.com/media/downloads/108/C4D30120D.pdf
footprint TO-247-3_Vertical
pins: 1 A1, 2 K, 3 A2

## C4D40120D
designator *  value C4D40120D
ki_keywords: sic diode; ki_description: 1200V, 40A, SiC Schottky Diode, TO-247-3; ki_fp_filters: TO?247*; Footprint: Package_TO_SOT_THT:TO-247-3_Vertical; Supplier: https://www.wolfspeed.com/media/downloads/109/C4D40120D.pdf
footprint TO-247-3_Vertical
pins: 1 A1, 2 K, 3 A2

## C5D50065D
designator *  value C5D50065D
ki_keywords: sic diode; ki_description: 650V, 50A, SiC Schottky Diode, TO-247-3; ki_fp_filters: TO?247*; Footprint: Package_TO_SOT_THT:TO-247-3_Vertical; Supplier: https://www.wolfspeed.com/media/downloads/111/C5D50065D.pdf
footprint TO-247-3_Vertical
pins: 1 A1, 2 K, 3 A2

## CD4148W
designator *  value CD4148W
ki_keywords: diode; ki_description: 75V 0.15A Switching Diode, 0805; ki_fp_filters: D*0805*; Footprint: Diode_SMD:D_0805_2012Metric; Supplier: https://www.dccomponents.com/upload/product/original/806236332588.pdf
footprint D_0805_2012Metric
pins: 1 K, 2 A

## CDBA340-HF
designator *  value CDBA340-HF
ki_keywords: diode Schottky; ki_description: 40V 3A Schottky Barrier Rectifier Diode, SMA(DO-214AC); ki_fp_filters: D*SMA*; Footprint: Diode_SMD:D_SMA; Supplier: https://www.comchiptech.com/admin/files/product/CDBA340-HF%20Thru193640.%20CDBA3100-HF%20RevB.pdf
footprint D_SMA
pins: 1 K, 2 A

## CDBA360-HF
designator *  value CDBA360-HF
ki_keywords: diode Schottky; ki_description: 60V 3A Schottky Barrier Rectifier Diode, SMA(DO-214AC); ki_fp_filters: D*SMA*; Footprint: Diode_SMD:D_SMA; Supplier: https://www.comchiptech.com/admin/files/product/CDBA340-HF%20Thru193640.%20CDBA3100-HF%20RevB.pdf
footprint D_SMA
pins: 1 K, 2 A

## CDBA3100-HF
designator *  value CDBA3100-HF
ki_keywords: diode Schottky; ki_description: 100V 3A Schottky Barrier Rectifier Diode, SMA(DO-214AC); ki_fp_filters: D*SMA*; Footprint: Diode_SMD:D_SMA; Supplier: https://www.comchiptech.com/admin/files/product/CDBA340-HF%20Thru193640.%20CDBA3100-HF%20RevB.pdf
footprint D_SMA
pins: 1 K, 2 A

## CDBU40-HF
designator *  value CDBU40-HF
ki_keywords: diode Schottky; ki_description: 40V 200mA Schottky Barrier Rectifier Diode, 0603; ki_fp_filters: D*0603*; Footprint: Diode_SMD:D_0603_1608Metric; Supplier: https://www.comchiptech.com/admin/files/product/QW-G1012-CDBU40-HF-RevA321692.pdf
footprint D_0603_1608Metric
pins: 1 K, 2 A

## Central_Semi_CMKD4448
designator *  value Central_Semi_CMKD4448
ki_keywords: diode; ki_description: High speed switching diode array 3 independent; ki_fp_filters: *SOT?363*; Footprint: Package_TO_SOT_SMD:SOT-363_SC-70-6; Supplier: http://www.centralsemi.com/PDFs/products/CMKD4448.PDF
footprint SOT-363_SC-70-6
part A pins: 1 A, 6 K
part B pins: 2 A, 5 K
part C pins: 3 A, 4 K

## Central_Semi_CMKD6001
designator *  value Central_Semi_CMKD6001
ki_keywords: diode; ki_description: Ultra low leakage switching diode array 3 independent; ki_fp_filters: *SOT?363*; Footprint: Package_TO_SOT_SMD:SOT-363_SC-70-6; Supplier: http://www.centralsemi.com/PDFs/products/CMKD6001.PDF
footprint SOT-363_SC-70-6
part A pins: 1 A, 6 K
part B pins: 2 A, 5 K
part C pins: 3 A, 4 K

## Comchip_ACDSV6-4448TI-G
designator *  value Comchip_ACDSV6-4448TI-G
ki_keywords: diode; ki_description: Small signal switching diode array 3 independent; ki_fp_filters: *SOT?363*; Footprint: Package_TO_SOT_SMD:SOT-363_SC-70-6; Supplier: http://www.comchiptech.com/cms/UserFiles/ACDSV6-4448TI-G%20RevA285610.pdf
footprint SOT-363_SC-70-6
part A pins: 1 A, 6 K
part B pins: 2 A, 5 K
part C pins: 3 A, 4 K

## Comchip_CDSV6-4148-G
designator *  value Comchip_CDSV6-4148-G
ki_keywords: diode; ki_description: Fast switching diode array 3 independent; ki_fp_filters: *SOT?363*; Footprint: Package_TO_SOT_SMD:SOT-363_SC-70-6; Supplier: http://www.comchiptech.com/cms/UserFiles/CDSV6-16-G,4148-G%20RevA272279.pdf
footprint SOT-363_SC-70-6
part A pins: 1 A, 6 K
part B pins: 2 A, 5 K
part C pins: 3 A, 4 K

## Comchip_CDSV6-4448TI-G
designator *  value Comchip_CDSV6-4448TI-G
ki_keywords: diode; ki_description: High speed switching diode array 3 independent; ki_fp_filters: *SOT?363*; Footprint: Package_TO_SOT_SMD:SOT-363_SC-70-6; Supplier: http://www.comchiptech.com/cms/UserFiles/CDSV6-4448XX-G%20RevC285574.pdf
footprint SOT-363_SC-70-6
part A pins: 1 A, 6 K
part B pins: 2 A, 5 K
part C pins: 3 A, 4 K

## CSD01060A
designator *  value CSD01060A
ki_keywords: sic diode; ki_description: 600V, 1A, SiC Schottky Diode, TO-220; ki_fp_filters: TO?220*; Footprint: Package_TO_SOT_THT:TO-220-2_Vertical; Supplier: https://www.wolfspeed.com/media/downloads/87/CSD01060.pdf
footprint TO-220-2_Vertical
pins: 1 K, 2 A

## CSD01060E
designator *  value CSD01060E
ki_keywords: sic diode; ki_description: 600V, 1A, SiC Schottky Diode, TO-252; ki_fp_filters: TO?252*TabPin1*; Footprint: Package_TO_SOT_SMD:TO-252-2_TabPin1; Supplier: https://www.wolfspeed.com/media/downloads/87/CSD01060.pdf
footprint TO-252-2_TabPin1
pins: 1 K, 2 A

## CVFD20065A
designator *  value CVFD20065A
ki_keywords: sic diode; ki_description: 650V, 20A, SiC Schottky Diode, TO-220; ki_fp_filters: TO?220*; Footprint: Package_TO_SOT_THT:TO-220-2_Vertical; Supplier: https://www.wolfspeed.com/media/downloads/89/CVFD20065A.pdf
footprint TO-220-2_Vertical
pins: 1 K, 2 A

## DB3
designator *  value DB3
ki_keywords: AC diode DIAC; ki_description: 32V 2A Bidirectional trigger diode, DO-35; ki_fp_filters: D*DO?35*; Footprint: Diode_THT:D_DO-35_SOD27_P7.62mm_Horizontal; Supplier: http://cdn-reichelt.de/documents/datenblatt/A100/DB%203%23st.pdf
footprint D_DO-35_SOD27_P7.62mm_Horizontal
pins: 1 K, 2 A

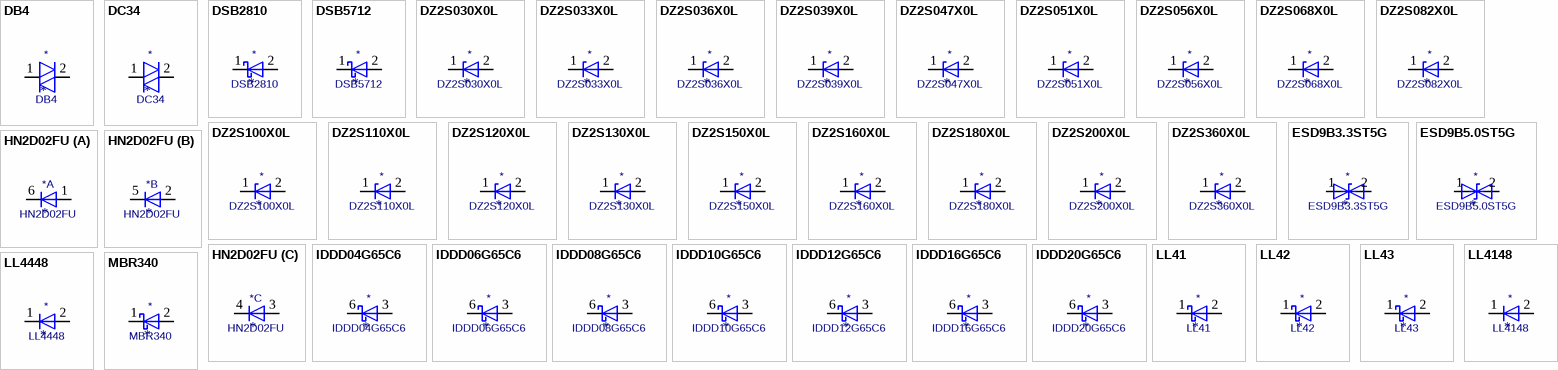
[diagram p8: symbols DB4 to MBR340]

## DB4
designator *  value DB4
ki_keywords: AC diode DIAC; ki_description: 34V 2A Bidirectional trigger diode, DO-35; ki_fp_filters: D*DO?35*; Footprint: Diode_THT:D_DO-35_SOD27_P7.62mm_Horizontal; Supplier: http://cdn-reichelt.de/documents/datenblatt/A100/DB%203%23st.pdf
footprint D_DO-35_SOD27_P7.62mm_Horizontal
pins: 1 K, 2 A

## DC34
designator *  value DC34
ki_keywords: AC diode DIAC; ki_description: 40V 2A Bidirectional trigger diode, DO-35; ki_fp_filters: D*DO?35*; Footprint: Diode_THT:D_DO-35_SOD27_P7.62mm_Horizontal; Supplier: http://cdn-reichelt.de/documents/datenblatt/A100/DB%203%23st.pdf
footprint D_DO-35_SOD27_P7.62mm_Horizontal
pins: 1 K, 2 A

## DSB2810
designator *  value DSB2810
ki_keywords: diode Schottky; ki_description: 20V 75mA Schottky diode, DO-35; ki_fp_filters: D*DO?35*; Footprint: Diode_THT:D_DO-35_SOD27_P7.62mm_Horizontal; Supplier: https://www.microsemi.com/document-portal/doc_download/8865-lds-0040-datasheet
footprint D_DO-35_SOD27_P7.62mm_Horizontal
pins: 1 K, 2 A

## DSB5712
designator *  value DSB5712
ki_keywords: diode Schottky; ki_description: 20V 75mA Schottky diode, DO-35; ki_fp_filters: D*DO?35*; Footprint: Diode_THT:D_DO-35_SOD27_P7.62mm_Horizontal; Supplier: https://www.microsemi.com/document-portal/doc_download/8865-lds-0040-datasheet
footprint D_DO-35_SOD27_P7.62mm_Horizontal
pins: 1 K, 2 A

## DZ2S030X0L
designator *  value DZ2S030X0L
ki_keywords: zener diode; ki_description: 150mW Silicon Planar Zener Diode, 3.0V, SOD-523; ki_fp_filters: D?SOD?523*; Footprint: Diode_SMD:D_SOD-523; Supplier: https://industrial.panasonic.com/content/data/SC/ds/ds4/DZ2S03000L_E.pdf
footprint D_SOD-523
pins: 1 K, 2 A

## DZ2S033X0L
designator *  value DZ2S033X0L
ki_keywords: zener diode; ki_description: 150mW Silicon Planar Zener Diode, 3.3V, SOD-523; ki_fp_filters: D?SOD?523*; Footprint: Diode_SMD:D_SOD-523; Supplier: https://industrial.panasonic.com/content/data/SC/ds/ds4/DZ2S03300L_E.pdf
footprint D_SOD-523
pins: 1 K, 2 A

## DZ2S036X0L
designator *  value DZ2S036X0L
ki_keywords: zener diode; ki_description: 150mW Silicon Planar Zener Diode, 3.6V, SOD-523; ki_fp_filters: D?SOD?523*; Footprint: Diode_SMD:D_SOD-523; Supplier: https://industrial.panasonic.com/content/data/SC/ds/ds4/DZ2S03600L_E.pdf
footprint D_SOD-523
pins: 1 K, 2 A

## DZ2S039X0L
designator *  value DZ2S039X0L
ki_keywords: zener diode; ki_description: 150mW Silicon Planar Zener Diode, 3.9V, SOD-523; ki_fp_filters: D?SOD?523*; Footprint: Diode_SMD:D_SOD-523; Supplier: https://industrial.panasonic.com/content/data/SC/ds/ds4/DZ2S03900L_E.pdf
footprint D_SOD-523
pins: 1 K, 2 A

## DZ2S047X0L
designator *  value DZ2S047X0L
ki_keywords: zener diode; ki_description: 150mW Silicon Planar Zener Diode, 4.7V, SOD-523; ki_fp_filters: D?SOD?523*; Footprint: Diode_SMD:D_SOD-523; Supplier: https://industrial.panasonic.com/content/data/SC/ds/ds4/DZ2S04700L_E.pdf
footprint D_SOD-523
pins: 1 K, 2 A

## DZ2S051X0L
designator *  value DZ2S051X0L
ki_keywords: zener diode; ki_description: 150mW Silicon Planar Zener Diode, 5.1V, SOD-523; ki_fp_filters: D?SOD?523*; Footprint: Diode_SMD:D_SOD-523; Supplier: https://industrial.panasonic.com/content/data/SC/ds/ds4/DZ2S05100L_E.pdf
footprint D_SOD-523
pins: 1 K, 2 A

## DZ2S056X0L
designator *  value DZ2S056X0L
ki_keywords: zener diode; ki_description: 150mW Silicon Planar Zener Diode, 5.6V, SOD-523; ki_fp_filters: D?SOD?523*; Footprint: Diode_SMD:D_SOD-523; Supplier: https://industrial.panasonic.com/content/data/SC/ds/ds4/DZ2S05600L_E.pdf
footprint D_SOD-523
pins: 1 K, 2 A

## DZ2S068X0L
designator *  value DZ2S068X0L
ki_keywords: zener diode; ki_description: 150mW Silicon Planar Zener Diode, 6.8V, SOD-523; ki_fp_filters: D?SOD?523*; Footprint: Diode_SMD:D_SOD-523; Supplier: https://industrial.panasonic.com/content/data/SC/ds/ds4/DZ2S06800L_E.pdf
footprint D_SOD-523
pins: 1 K, 2 A

## DZ2S082X0L
designator *  value DZ2S082X0L
ki_keywords: zener diode; ki_description: 150mW Silicon Planar Zener Diode, 8.2V, SOD-523; ki_fp_filters: D?SOD?523*; Footprint: Diode_SMD:D_SOD-523; Supplier: https://industrial.panasonic.com/content/data/SC/ds/ds4/DZ2S08200L_E.pdf
footprint D_SOD-523
pins: 1 K, 2 A

## DZ2S100X0L
designator *  value DZ2S100X0L
ki_keywords: zener diode; ki_description: 150mW Silicon Planar Zener Diode, 10V, SOD-523; ki_fp_filters: D?SOD?523*; Footprint: Diode_SMD:D_SOD-523; Supplier: https://industrial.panasonic.com/content/data/SC/ds/ds4/DZ2S10000L_E.pdf
footprint D_SOD-523
pins: 1 K, 2 A

## DZ2S110X0L
designator *  value DZ2S110X0L
ki_keywords: zener diode; ki_description: 150mW Silicon Planar Zener Diode, 11V, SOD-523; ki_fp_filters: D?SOD?523*; Footprint: Diode_SMD:D_SOD-523; Supplier: https://industrial.panasonic.com/content/data/SC/ds/ds4/DZ2S11000L_E.pdf
footprint D_SOD-523
pins: 1 K, 2 A

## DZ2S120X0L
designator *  value DZ2S120X0L
ki_keywords: zener diode; ki_description: 150mW Silicon Planar Zener Diode, 12V, SOD-523; ki_fp_filters: D?SOD?523*; Footprint: Diode_SMD:D_SOD-523; Supplier: https://industrial.panasonic.com/content/data/SC/ds/ds4/DZ2S12000L_E.pdf
footprint D_SOD-523
pins: 1 K, 2 A

## DZ2S130X0L
designator *  value DZ2S130X0L
ki_keywords: zener diode; ki_description: 150mW Silicon Planar Zener Diode, 13V, SOD-523; ki_fp_filters: D?SOD?523*; Footprint: Diode_SMD:D_SOD-523; Supplier: https://industrial.panasonic.com/content/data/SC/ds/ds4/DZ2S13000L_E.pdf
footprint D_SOD-523
pins: 1 K, 2 A

## DZ2S150X0L
designator *  value DZ2S150X0L
ki_keywords: zener diode; ki_description: 150mW Silicon Planar Zener Diode, 15V, SOD-523; ki_fp_filters: D?SOD?523*; Footprint: Diode_SMD:D_SOD-523; Supplier: https://industrial.panasonic.com/content/data/SC/ds/ds4/DZ2S15000L_E.pdf
footprint D_SOD-523
pins: 1 K, 2 A

## DZ2S160X0L
designator *  value DZ2S160X0L
ki_keywords: zener diode; ki_description: 150mW Silicon Planar Zener Diode, 16V, SOD-523; ki_fp_filters: D?SOD?523*; Footprint: Diode_SMD:D_SOD-523; Supplier: https://industrial.panasonic.com/content/data/SC/ds/ds4/DZ2S16000L_E.pdf
footprint D_SOD-523
pins: 1 K, 2 A

## DZ2S180X0L
designator *  value DZ2S180X0L
ki_keywords: zener diode; ki_description: 150mW Silicon Planar Zener Diode, 18V, SOD-523; ki_fp_filters: D?SOD?523*; Footprint: Diode_SMD:D_SOD-523; Supplier: https://industrial.panasonic.com/content/data/SC/ds/ds4/DZ2S18000L_E.pdf
footprint D_SOD-523
pins: 1 K, 2 A

## DZ2S200X0L
designator *  value DZ2S200X0L
ki_keywords: zener diode; ki_description: 150mW Silicon Planar Zener Diode, 20V, SOD-523; ki_fp_filters: D?SOD?523*; Footprint: Diode_SMD:D_SOD-523; Supplier: https://industrial.panasonic.com/content/data/SC/ds/ds4/DZ2S20000L_E.pdf
footprint D_SOD-523
pins: 1 K, 2 A

## DZ2S360X0L
designator *  value DZ2S360X0L
ki_keywords: zener diode; ki_description: 150mW Silicon Planar Zener Diode, 36V, SOD-523; ki_fp_filters: D?SOD?523*; Footprint: Diode_SMD:D_SOD-523; Supplier: https://industrial.panasonic.com/content/data/SC/ds/ds4/DZ2S36000L_E.pdf
footprint D_SOD-523
pins: 1 K, 2 A

## ESD9B3.3ST5G
designator *  value ESD9B3.3ST5G
ki_keywords: diode TVS ESD; ki_description: ESD protection diode, 3.3Vrwm, SOD-923; ki_fp_filters: D*SOD?923*; Footprint: Diode_SMD:D_SOD-923; Supplier: https://www.onsemi.com/pub/Collateral/ESD9B-D.PDF
footprint D_SOD-923
pins: 1 A1, 2 A2

## ESD9B5.0ST5G
designator *  value ESD9B5.0ST5G
ki_keywords: diode TVS ESD; ki_description: ESD protection diode, 5.0Vrwm, SOD-923; ki_fp_filters: D*SOD?923*; Footprint: Diode_SMD:D_SOD-923; Supplier: https://www.onsemi.com/pub/Collateral/ESD9B-D.PDF
footprint D_SOD-923
pins: 1 A1, 2 A2

## HN2D02FU
designator *  value HN2D02FU
ki_keywords: diode; ki_description: Ultra high speed switching diode array 3 independent; ki_fp_filters: *SOT?363*; Footprint: Package_TO_SOT_SMD:SOT-363_SC-70-6; Supplier: http://www.onsemi.com/pub_link/Collateral/HN2D02FUTW1T1-D.PDF
footprint SOT-363_SC-70-6
part A pins: 1 A, 6 K
part B pins: 2 A, 5 K
part C pins: 3 A, 4 K

## IDDD04G65C6
designator *  value IDDD04G65C6
ki_keywords: sic diode; ki_description: 650V, 4A, SiC Schottky Diode, CoolSiC, PG-HDSOP-10-1 (DDPAK); ki_fp_filters: Infineon*PG*HDSOP*; Footprint: Package_TO_SOT_SMD:Infineon_PG-HDSOP-10-1; Supplier: https://www.infineon.com/dgdl/Infineon-IDDD04G65C6-DS-v02_00-EN.pdf?fileId=5546d462625a528f01628f749daa0e03
footprint Infineon_PG-HDSOP-10-1
pins: 1 NC (in) hidden, 2 NC (in) hidden, 3 A, 4 A hidden, 5 A hidden, 6 K, 7 K hidden, 8 K hidden, 9 K hidden, 10 K hidden